# EAGLE library part SLA706*M (library allegro-2)
UNIPOLAR STEPPER-MOTOR TRANSLATOR/DRIVERS Output current: SLA7060M 1.0 A, SLA7061M 2.0 A, SLA7062M 3.0 A Source: 97060.pdf
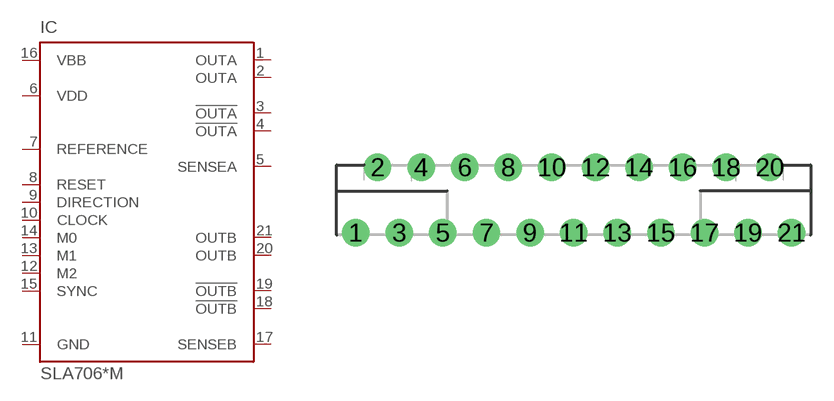
[diagram p5: symbol with the pads of ZIP21-SLA; footprint ZIP21-SLA]

Designator prefix IC

## SLA7060M (MF: ALLEGRO MICROSYSTEMS, INC.; MPN: SLA7060M; OC_FARNELL: unknown; OC_NEWARK: 61H9897), SLA7061M (MF: ALLEGRO MICROSYSTEMS, INC.; MPN: SLA7061M; OC_FARNELL: unknown; OC_NEWARK: 61H9898), SLA7062M (MPN: SLA7062M; OC_FARNELL: 1329628; OC_NEWARK: 77M9253)  [ZIP21-SLA]
1  OUTA  out
2  OUTA  pas
3  !OUTA  out
4  !OUTA  pas
5  SENSEA  in
6  VDD  pwr
7  REFERENCE  in
8  RESET  in
9  DIRECTION  in
10  CLOCK  in
11  GND  pwr
12  M2  in
13  M1  in
14  M0  in
15  SYNC  in
16  VBB  pwr
17  SENSEB  in
18  !OUTB  pas
19  !OUTB  out
20  OUTB  pas
21  OUTB  out

## Footprint ZIP21-SLA (pad centres in mm)
ZIP 21 / SLA706xMLF2102 Source: 97060.pdf
drill 0.9 pad 1.8: 1 -14.3,-2.145; 2 -12.87,2.145; 3 -11.44,-2.145; 4 -10.01,2.145; 5 -8.58,-2.145; 6 -7.15,2.145; 7 -5.72,-2.145; 8 -4.29,2.145; 9 -2.86,-2.145; 10 -1.43,2.145; 11 0,-2.145; 12 1.43,2.145; 13 2.86,-2.145; 14 4.29,2.145; 15 5.72,-2.145; 16 7.15,2.145; 17 8.58,-2.145; 18 10.01,2.145; 19 11.44,-2.145; 20 12.87,2.145; 21 14.3,-2.145